# Altium footprint library nail_detector.PcbLib: 77 footprints (part 3 of 5)
Each footprint in its own frame and in the unit in brackets; x right, y up, seen from the top. Pads: shape width x height; smd on the part's side, far side on the other; paste and mask are expansions set on the pad; w line width, h text height; cw(c..) or ccw(c..) is an arc to the next point about the centre after c.
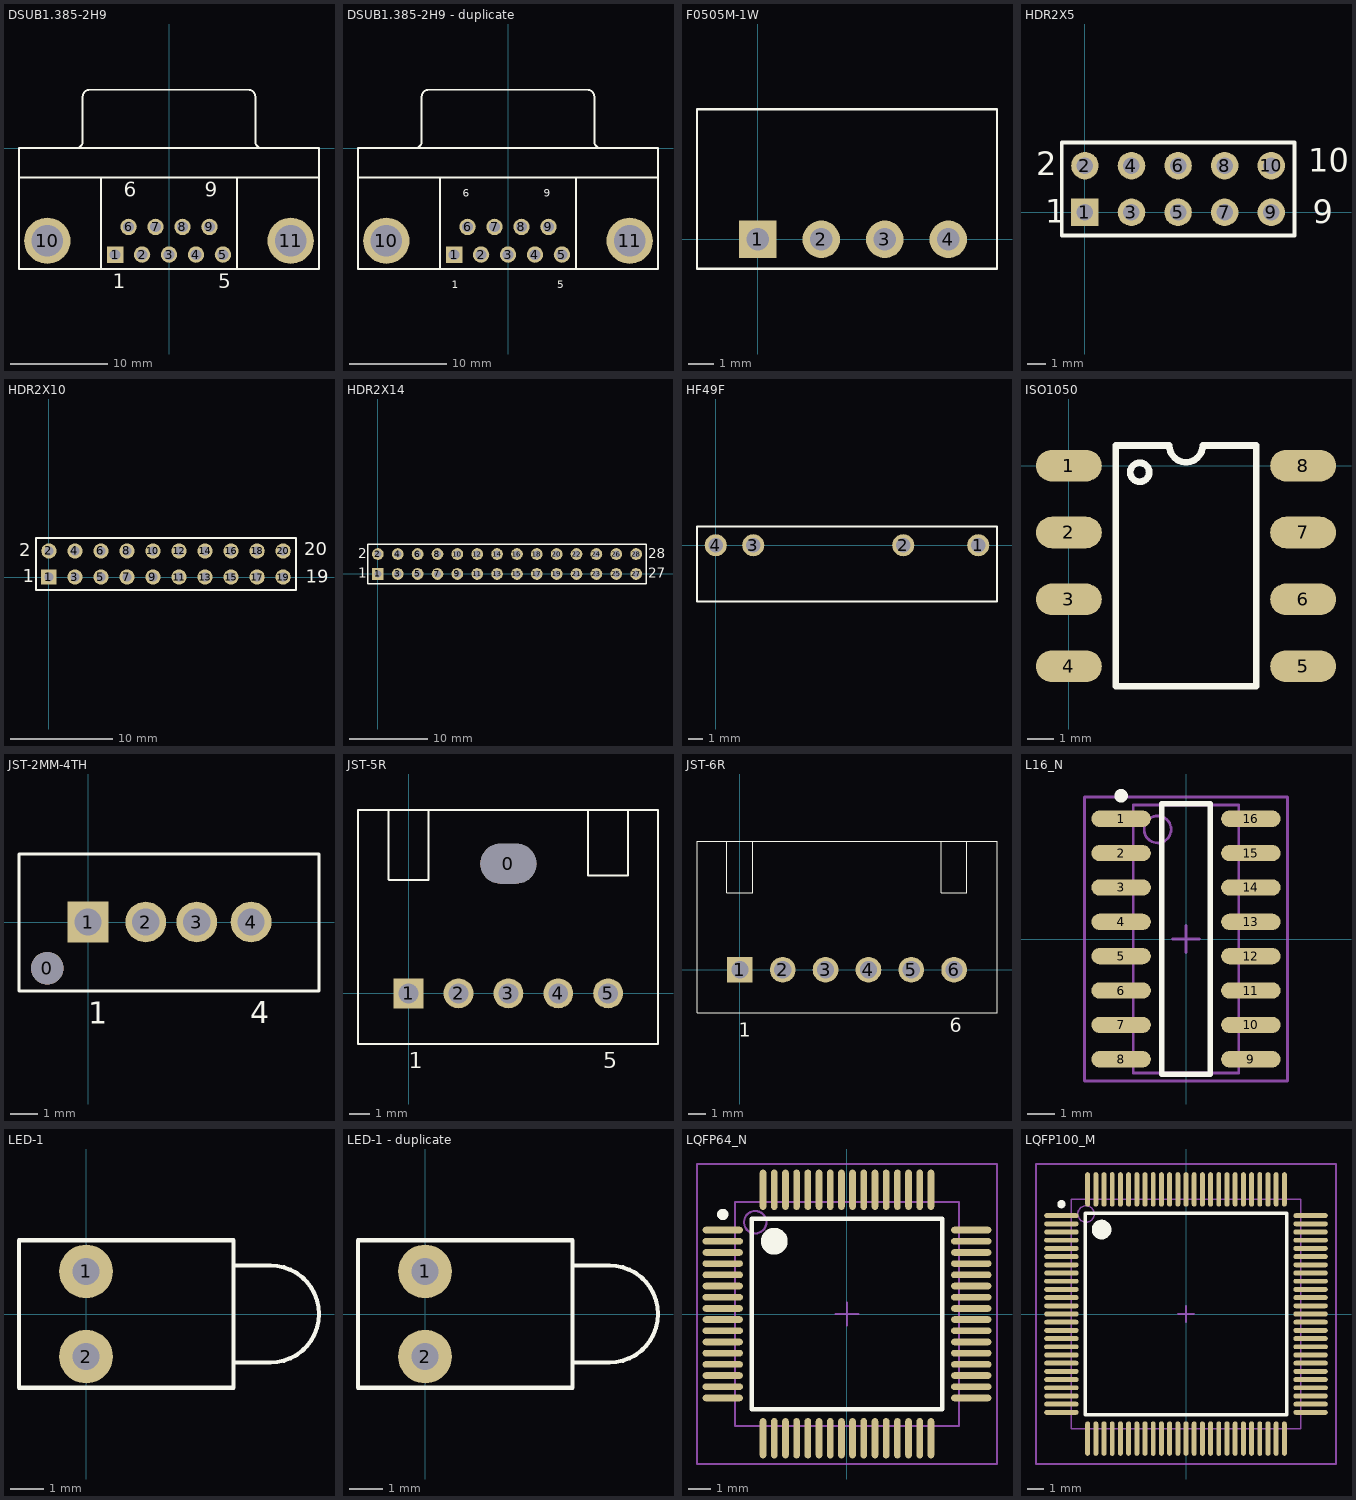
[diagram p2: the footprints below, top view; thin cyan lines are the x and y axes]

## DSUB1.385-2H9 [mm] "Connector; D Subminiature; 9 Position; Right Angle; Pitch 1.385 mm"
height 12.75
pads (11):
  rect 1.69x1.69 hole 1.09: 1(-5.54,-10.92)
  round 1.69 hole 1.09: 2(-2.77,-10.92) 3(0,-10.92) 4(2.77,-10.92) 5(5.54,-10.92) 6(-4.155,-8.08) 7(-1.385,-8.08) 8(1.385,-8.08) 9(4.155,-8.08)
  round 4.76 hole 3.26: 10(-12.495,-9.5) 11(12.495,-9.5)
Top Overlay:
  lines w0.2: -15.4,-3 15.4,-3 ; -9.56,0.005 ccw(c-9.56,0.7) -8.865,0.7 -8.865,5.3 ; -8.86,5.305 cw(c-8.165,5.305) -8.165,6 8.165,6 cw(c8.165,5.305) 8.86,5.305 ; -7,-12.4 -7,-3 ; 7,-12.4 7,-3 ; 8.865,5.3 8.865,0.7 ccw(c9.56,0.7) 9.56,0.005 ; -15.4,-12.4 15.4,-12.4 15.4,0 -15.4,0 -15.4,-12.4
  text "6" at -4.655,-4.975 h1.5
  text "9" at 3.655,-4.975 h1.5
  text "5" at 5.04,-14.375 h1.5
  text "1" at -5.79,-14.375 h1.5

## DSUB1.385-2H9 - duplicate [mm] "Connector; D Subminiature; 9 Position; Right Angle; Pitch 1.385 mm"
height 12.75
pads (11):
  rect 1.69x1.69 hole 1.09: 1(-5.54,-10.92)
  round 1.69 hole 1.09: 2(-2.77,-10.92) 3(0,-10.92) 4(2.77,-10.92) 5(5.54,-10.92) 6(-4.155,-8.08) 7(-1.385,-8.08) 8(1.385,-8.08) 9(4.155,-8.08)
  round 4.76 hole 3.26: 10(-12.495,-9.5) 11(12.495,-9.5)
Top Overlay:
  lines w0.2: -15.4,-3 15.4,-3 ; -9.56,0.005 ccw(c-9.56,0.7) -8.865,0.7 -8.865,5.3 ; -8.86,5.305 cw(c-8.165,5.305) -8.165,6 8.165,6 cw(c8.165,5.305) 8.86,5.305 ; -7,-12.4 -7,-3 ; 7,-12.4 7,-3 ; 8.865,5.3 8.865,0.7 ccw(c9.56,0.7) 9.56,0.005 ; -15.4,-12.4 15.4,-12.4 15.4,0 -15.4,0 -15.4,-12.4
  text "6" at -4.655,-4.975 h0.8
  text "9" at 3.655,-4.975 h0.8
  text "5" at 5.04,-14.375 h0.8
  text "1" at -5.79,-14.375 h0.8
3D body: height 12.55, standoff -3.5, extent -15.723,-12.489 15.587,5.911

## F0505M-1W [mm]
height 7.5
pads (4):
  rect 1.5x1.5 hole 0.9: 1(0,0)
  round 1.5 hole 0.9: 2(2.54,0) 3(5.08,0) 4(7.62,0)
Top Overlay:
  lines w0.1: -2.432,-1.174 -1.432,-1.174 9.568,-1.174 9.568,5.2 -2.432,5.2 -2.432,-1.174
3D body: height 7.5, standoff 0, extent -2.388,-1.143 9.5,4.724

## HDR2X5 [mm] "Connector; Header; 5x2 Position"
height 2.44
pads (10):
  rect 1.5x1.5 hole 0.9: 1(0,0)
  round 1.5 hole 0.9: 2(0,2.54) 3(2.54,0) 4(2.54,2.54) 5(5.08,0) 6(5.08,2.54) 7(7.62,0) 8(7.62,2.54) 9(10.16,0) 10(10.16,2.54)
Top Overlay:
  lines w0.2: -1.27,-1.27 11.43,-1.27 11.43,3.81 -1.27,3.81 -1.27,-1.27
  text "10" at 12.167,2.21 h1.27
  text "9" at 12.421,-0.584 h1.27
  text "1" at -2.159,-0.559 h1.27
  text "2" at -2.667,2.032 h1.27

## HDR2X10 [mm] "Connector; Header; 10x2 Position"
pads (20):
  rect 1.5x1.5 hole 0.9: 1(0,0)
  round 1.5 hole 0.9: 2(0,2.54) 3(2.54,0) 4(2.54,2.54) 5(5.08,0) 6(5.08,2.54) 7(7.62,0) 8(7.62,2.54) 9(10.16,0) 10(10.16,2.54) 11(12.7,0) 12(12.7,2.54) 13(15.24,0) 14(15.24,2.54) 15(17.78,0) 16(17.78,2.54) 17(20.32,0) 18(20.32,2.54) 19(22.86,0) 20(22.86,2.54)
Top Overlay:
  lines w0.2: -1.27,-1.27 0.635,-1.27 24.13,-1.27 24.13,3.81 0.635,3.81 -1.27,3.81 -1.27,-1.27
  text "20" at 24.917,2.134 h1.27
  text "19" at 25.095,-0.559 h1.27
  text "1" at -2.54,-0.508 h1.27
  text "2" at -2.921,2.032 h1.27

## HDR2X14 [mm] "Connector; Header; 14x2 Position"
pads (28):
  rect 1.5x1.5 hole 0.9: 1(0,0)
  round 1.5 hole 0.9: 2(0,2.54) 3(2.54,0) 4(2.54,2.54) 5(5.08,0) 6(5.08,2.54) 7(7.62,0) 8(7.62,2.54) 9(10.16,0) 10(10.16,2.54) 11(12.7,0) 12(12.7,2.54) 13(15.24,0) 14(15.24,2.54) 15(17.78,0) 16(17.78,2.54) 17(20.32,0) 18(20.32,2.54) 19(22.86,0) 20(22.86,2.54) 21(25.4,0) 22(25.4,2.54) 23(27.94,0) 24(27.94,2.54) 25(30.48,0) 26(30.48,2.54) 27(33.02,0) 28(33.02,2.54)
Top Overlay:
  lines w0.2: -1.27,-1.27 34.29,-1.27 34.29,3.81 -1.27,3.81 -1.27,-1.27
  text "28" at 34.544,2.032 h1.27
  text "27" at 34.544,-0.508 h1.27
  text "1" at -2.54,-0.508 h1.27
  text "2" at -2.54,2.032 h1.27

## HF49F [mm]
height 12
pads (4):
  round 1.5 hole 1: 1(17.78,0) 2(12.7,0) 3(2.54,0) 4(0,0)
Top Overlay:
  lines w0.127: 19.05,-3.81 19.05,1.27
  lines w0.154: 19.05,-3.81 -1.27,-3.81 -1.27,1.27 19.05,1.27
3D body: height 12, standoff 0, extent -1.27,-3.81 19.05,1.27

## ISO1050 [mm]
height 1.27
pads (8):
  oval 2.5x1.2 smd: 1(0,0) 2(0,-2.54) 3(0,-5.08) 4(0,-7.62) 5(8.89,-7.62) 6(8.89,-5.08) 7(8.89,-2.54) 8(8.89,0)
Top Overlay:
  circle w0.254: c2.689,-0.254 r0.359
  lines w0.254: 1.778,-8.382 7.112,-8.382 7.112,0.762 5.08,0.762 cw(c4.445,0.762) 3.81,0.762 1.778,0.762 1.778,-8.382

## JST-2MM-4TH [mm]
height 6
pads (5):
  round 1.2 hole 1.2: 0(-1.5,-1.7)
  rect 1.5x1.5 hole 1: 1(0,0)
  round 1.5 hole 1: 2(2.123,0) 3(4,0) 4(6,0)
Top Overlay:
  lines w0.1: 8.5,-2.54 -2.54,-2.54 -2.54,2.5 8.5,2.5 8.5,-2.5
  text "4" at 5.969,-3.734 h0.8
  text "1" at 0,-3.75 h0.8
3D body: height 3, standoff 0, extent 1.627,-0.499 2.623,0.499
3D body: height 3, standoff 0, extent 5.502,-0.5 6.498,0.498
3D body: height 3, standoff 0, extent -0.496,-0.499 0.5,0.499
3D body: height 3, standoff 0, extent 3.502,-0.5 4.498,0.498
3D body: height 9.8, standoff 0, extent -2.5,-2.5 8.5,2.5
3D body: height 1, standoff 0, extent -2,-2 8,2

## JST-5R [mm]
height 6
pads (6):
  oval 2.8x2 hole 2 slot 2.8 at 0 deg: 0(5,6.5)
  rect 1.5x1.5 hole 1: 1(0,0)
  round 1.5 hole 1: 2(2.5,0) 3(5,0) 4(7.5,0) 5(10,0)
Top Overlay:
  lines w0.1: -1,9.2 -1,5.7 -0.971,5.671 1,5.671 1,9.2 ; 9,9.15 9,5.9 10.4,5.9 11,5.9 11,6.5 11,9.2 ; -2.54,-2.54 12.5,-2.54 12.5,9.2 -2.54,9.2 -2.54,-2.54
  text "5" at 9.75,-3.75 h0.8
  text "1" at 0,-3.75 h0.8
3D body: height 6, standoff 0.2, extent -2.54,-2.54 12.5,9.2
3D body: height 3, standoff 0, extent 2.004,-0.499 3,0.499
3D body: height 3, standoff 0, extent 7.004,-0.499 8,0.499
3D body: height 3, standoff 0, extent 9.504,-0.499 10.5,0.499
3D body: height 3, standoff 0, extent -0.496,-0.499 0.5,0.499
3D body: height 3, standoff 0, extent 4.504,-0.499 5.5,0.499
3D body: height 3, standoff 2.5, extent -0.381,0 0.381,2.032
3D body: height 3, standoff 2.5, extent 2.123,0 2.885,2.032
3D body: height 3, standoff 2.5, extent 4.623,0 5.385,2.032
3D body: height 3, standoff 2.5, extent 7.123,0 7.885,2.032
3D body: height 3, standoff 2.5, extent 9.623,0 10.385,2.032
3D body: height 3, standoff 2.5, extent 9.619,5.968 10.381,8
3D body: height 3, standoff 2.5, extent -0.381,5.968 0.381,8
3D body: height 3, standoff 2.5, extent 2.119,5.968 2.881,8
3D body: height 3, standoff 2.5, extent 4.642,5.992 5.404,8.024
3D body: height 3, standoff 2.5, extent 7.1,5.984 7.862,8.016
3D body: height 6, standoff 5.7, extent 0.5,3.75 9.5,9.2
3D body: height 0.5, standoff 0, extent -2.54,0 12.5,9.2

## JST-6R [mm]
height 6
pads (6):
  rect 1.5x1.5 hole 1: 1(0,0)
  round 1.5 hole 1: 2(2.5,0) 3(5,0) 4(7.5,0) 5(10,0) 6(12.5,0)
Top Overlay:
  lines w0.051: -0.75,7.5 -0.75,4.5 0.75,4.5 0.75,7.5 ; 11.75,7.5 11.75,4.5 13.25,4.5 13.25,7.5 ; -2.5,-2.5 15,-2.5 15,7.5 -2.5,7.5 -2.5,-2.5
  text "1" at -0.076,-3.912 h0.8
  text "6" at 12.243,-3.658 h0.8
3D body: height 6, standoff 0.2, extent -2.5,-2.5 15,7.5
3D body: height 3, standoff 0, extent 2.004,-0.499 3,0.499
3D body: height 3, standoff 0, extent 7.004,-0.499 8,0.499
3D body: height 3, standoff 0, extent 9.504,-0.499 10.5,0.499
3D body: height 3, standoff 0, extent -0.496,-0.499 0.5,0.499
3D body: height 3, standoff 0, extent 4.504,-0.499 5.5,0.499
3D body: height 3, standoff 2.5, extent -0.381,0 0.381,2.032
3D body: height 3, standoff 2.5, extent 2.119,-0.016 2.881,2.016
3D body: height 3, standoff 2.5, extent 4.619,-0.016 5.381,2.016
3D body: height 3, standoff 2.5, extent 7.138,-0.016 7.9,2.016
3D body: height 3, standoff 2.5, extent 9.619,-0.016 10.381,2.016
3D body: height 3, standoff 2.5, extent 9.642,4.292 10.404,6.324
3D body: height 3, standoff 2.5, extent -0.377,4.3 0.385,6.332
3D body: height 3, standoff 2.5, extent 2.142,4.292 2.904,6.324
3D body: height 3, standoff 2.5, extent 4.642,4.292 5.404,6.324
3D body: height 3, standoff 2.5, extent 7.142,4.292 7.904,6.324
3D body: height 6, standoff 5.7, extent 0.75,3.75 11.75,7.5
3D body: height 3, standoff 2.5, extent 12.119,-0.016 12.881,2.016
3D body: height 3, standoff 0, extent 12.004,-0.499 13,0.499
3D body: height 3, standoff 2.5, extent 12.142,4.292 12.904,6.324

## L16_N [mm] "16-Pin Small Outline Integrated Circuit 1.27 mm Pitch, IPC Medium Density"
height 1.75
pads (16):
  oval 2.2x0.6 smd: 1(-2.4,4.445) 2(-2.4,3.175) 3(-2.4,1.905) 4(-2.4,0.635) 5(-2.4,-0.635) 6(-2.4,-1.905) 7(-2.4,-3.175) 8(-2.4,-4.445) 9(2.4,-4.445) 10(2.4,-3.175) 11(2.4,-1.905) 12(2.4,-0.635) 13(2.4,0.635) 14(2.4,1.905) 15(2.4,3.175) 16(2.4,4.445)
Top Overlay:
  circle w0.25: c-2.4,5.295 r0.125
  lines w0.2: -0.9,-5 0.9,-5 0.9,5 -0.9,5 -0.9,-5
Mechanical 13:
  circle w0.1: c-1.05,4.05 r0.5
  lines w0.1: -1.95,-4.95 1.95,-4.95 1.95,4.95 -1.95,4.95 -1.95,-4.95
Mechanical 15:
  lines w0.1: -0.5,0 0.5,0 ; 0,-0.5 0,0.5 ; -3.75,-5.25 3.75,-5.25 3.75,5.25 -3.75,5.25 -3.75,-5.25
3D body: height 1.75, standoff 0, extent -1.95,-4.95 1.95,4.95

## LED-1 [mm] "LED; 2 Leads"
pads (2):
  round 1.6 hole 0.8: 1(0,1.27) 2(0,-1.27)
Top Overlay:
  lines w0.127: 4.4,-1.45 5.5,-1.45 ccw(c5.5,0) 5.5,1.45 4.4,1.45 ; -2,-2.2 -2,2.2 4.4,2.2 4.4,-2.2 -2,-2.2

## LED-1 - duplicate [mm] "Typical RED GaAs LED; 2 Leads"
height 1.6
pads (2):
  round 1.6 hole 0.8: 1(0,1.27) 2(0,-1.27)
Top Overlay:
  lines w0.127: 4.4,-1.45 5.5,-1.45 ccw(c5.5,0) 5.5,1.45 4.4,1.45 ; -2,-2.2 -2,2.2 4.4,2.2 4.4,-2.2 -2,-2.2
3D body: height 8, standoff 0, extent -2.032,-2.159 4.318,2.159
3D body: height 3, standoff 2, extent 4.445,-1.397 6.477,1.397

## LQFP64_N [mm] "Thin QFP, 64-Leads, Body 10x10mm, Pitch 0.5mm, IPC Medium Density"
height 1.6
pads (64):
  oval 1.8x0.3 smd: 1(-5.55,3.75) 2(-5.55,3.25) 3(-5.55,2.75) 4(-5.55,2.25) 5(-5.55,1.75) 6(-5.55,1.25) 7(-5.55,0.75) 8(-5.55,0.25) 9(-5.55,-0.25) 10(-5.55,-0.75) 11(-5.55,-1.25) 12(-5.55,-1.75) 13(-5.55,-2.25) 14(-5.55,-2.75) 15(-5.55,-3.25) 16(-5.55,-3.75) 33(5.55,-3.75) 34(5.55,-3.25) 35(5.55,-2.75) 36(5.55,-2.25) 37(5.55,-1.75) 38(5.55,-1.25) 39(5.55,-0.75) 40(5.55,-0.25) 41(5.55,0.25) 42(5.55,0.75) 43(5.55,1.25) 44(5.55,1.75) 45(5.55,2.25) 46(5.55,2.75) 47(5.55,3.25) 48(5.55,3.75)
  oval 0.3x1.8 smd: 17(-3.75,-5.55) 18(-3.25,-5.55) 19(-2.75,-5.55) 20(-2.25,-5.55) 21(-1.75,-5.55) 22(-1.25,-5.55) 23(-0.75,-5.55) 24(-0.25,-5.55) 25(0.25,-5.55) 26(0.75,-5.55) 27(1.25,-5.55) 28(1.75,-5.55) 29(2.25,-5.55) 30(2.75,-5.55) 31(3.25,-5.55) 32(3.75,-5.55) 49(3.75,5.55) 50(3.25,5.55) 51(2.75,5.55) 52(2.25,5.55) 53(1.75,5.55) 54(1.25,5.55) 55(0.75,5.55) 56(0.25,5.55) 57(-0.25,5.55) 58(-0.75,5.55) 59(-1.25,5.55) 60(-1.75,5.55) 61(-2.25,5.55) 62(-2.75,5.55) 63(-3.25,5.55) 64(-3.75,5.55)
Top Overlay:
  circle w0.25: c-5.55,4.45 r0.125
  circle w0.6: c-3.25,3.25 r0.3
  lines w0.2: -4.25,-4.25 -4.25,4.25 4.25,4.25 4.25,-4.25 -4.25,-4.25
Mechanical 13:
  circle w0.1: c-4.1,4.1 r0.5
  lines w0.1: -5,-5 -5,5 5,5 5,-5 -5,-5
Mechanical 15:
  lines w0.1: -0.5,0 0.5,0 ; 0,-0.5 0,0.5 ; -6.7,-6.7 -6.7,6.7 6.7,6.7 6.7,-6.7 -6.7,-6.7
3D body: height 1.6, standoff 0, extent -5,-5 5,5

## LQFP100_M [mm] "Thin QFP, 100-Leads, Body 14x14mm, Pitch 0.5mm, IPC Low Density"
height 1.6
pads (100):
  oval 2.1x0.3 smd: 1(-7.6,6) 2(-7.6,5.5) 3(-7.6,5) 4(-7.6,4.5) 5(-7.6,4) 6(-7.6,3.5) 7(-7.6,3) 8(-7.6,2.5) 9(-7.6,2) 10(-7.6,1.5) 11(-7.6,1) 12(-7.6,0.5) 13(-7.6,0) 14(-7.6,-0.5) 15(-7.6,-1) 16(-7.6,-1.5) 17(-7.6,-2) 18(-7.6,-2.5) 19(-7.6,-3) 20(-7.6,-3.5) 21(-7.6,-4) 22(-7.6,-4.5) 23(-7.6,-5) 24(-7.6,-5.5) 25(-7.6,-6) 51(7.6,-6) 52(7.6,-5.5) 53(7.6,-5) 54(7.6,-4.5) 55(7.6,-4) 56(7.6,-3.5) 57(7.6,-3) 58(7.6,-2.5) 59(7.6,-2) 60(7.6,-1.5) 61(7.6,-1) 62(7.6,-0.5) 63(7.6,0) 64(7.6,0.5) 65(7.6,1) 66(7.6,1.5) 67(7.6,2) 68(7.6,2.5) 69(7.6,3) 70(7.6,3.5) 71(7.6,4) 72(7.6,4.5) 73(7.6,5) 74(7.6,5.5) 75(7.6,6)
  oval 0.3x2.1 smd: 26(-6,-7.6) 27(-5.5,-7.6) 28(-5,-7.6) 29(-4.5,-7.6) 30(-4,-7.6) 31(-3.5,-7.6) 32(-3,-7.6) 33(-2.5,-7.6) 34(-2,-7.6) 35(-1.5,-7.6) 36(-1,-7.6) 37(-0.5,-7.6) 38(0,-7.6) 39(0.5,-7.6) 40(1,-7.6) 41(1.5,-7.6) 42(2,-7.6) 43(2.5,-7.6) 44(3,-7.6) 45(3.5,-7.6) 46(4,-7.6) 47(4.5,-7.6) 48(5,-7.6) 49(5.5,-7.6) 50(6,-7.6) 76(6,7.6) 77(5.5,7.6) 78(5,7.6) 79(4.5,7.6) 80(4,7.6) 81(3.5,7.6) 82(3,7.6) 83(2.5,7.6) 84(2,7.6) 85(1.5,7.6) 86(1,7.6) 87(0.5,7.6) 88(0,7.6) 89(-0.5,7.6) 90(-1,7.6) 91(-1.5,7.6) 92(-2,7.6) 93(-2.5,7.6) 94(-3,7.6) 95(-3.5,7.6) 96(-4,7.6) 97(-4.5,7.6) 98(-5,7.6) 99(-5.5,7.6) 100(-6,7.6)
Top Overlay:
  circle w0.6: c-5.15,5.15 r0.3
  circle w0.25: c-7.6,6.7 r0.125
  lines w0.2: -6.15,-6.15 6.15,-6.15 6.15,6.15 -6.15,6.15 -6.15,-6.15
Mechanical 13:
  circle w0.1: c-6.1,6.1 r0.5
  lines w0.1: -7,-7 7,-7 7,7 -7,7 -7,-7
Mechanical 15:
  lines w0.1: -0.5,0 0.5,0 ; 0,-0.5 0,0.5 ; -9.15,-9.15 9.15,-9.15 9.15,9.15 -9.15,9.15 -9.15,-9.15
3D body: height 1.6, standoff 0, extent -7.999,-8 8.001,8